# EAGLE library part K9F1G08U0D-SCB0 (library K9F1G08U0D-SCB0)
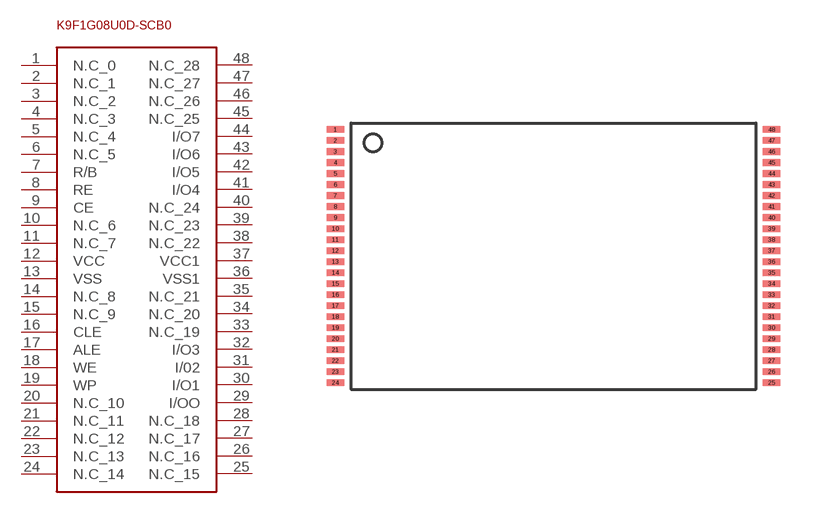
[diagram p0: symbol with the pads of K9F1G08U0D-SCB0; footprint K9F1G08U0D-SCB0]

Designator prefix -

## K9F1G08U0D-SCB0  [K9F1G08U0D-SCB0]
1  N.C_0
2  N.C_1
3  N.C_2
4  N.C_3
5  N.C_4
6  N.C_5
7  R/B
8  RE
9  CE
10  N.C_6
11  N.C_7
12  VCC
13  VSS
14  N.C_8
15  N.C_9
16  CLE
17  ALE
18  WE
19  WP
20  N.C_10
21  N.C_11
22  N.C_12
23  N.C_13
24  N.C_14
25  N.C_15
26  N.C_16
27  N.C_17
28  N.C_18
29  I/OO
30  I/O1
31  I/02
32  I/O3
33  N.C_19
34  N.C_20
35  N.C_21
36  VSS1
37  VCC1
38  N.C_22
39  N.C_23
40  N.C_24
41  I/O4
42  I/O5
43  I/O6
44  I/O7
45  N.C_25
46  N.C_26
47  N.C_27
48  N.C_28

## Footprint K9F1G08U0D-SCB0 (pad centres in mm)
smd 0.8 x 0.3: 1 0,0; 2 0,-0.5; 3 0,-1; 4 0,-1.5; 5 0,-2; 6 0,-2.5; 7 0,-3; 8 0,-3.5; 9 0,-4; 10 0,-4.5; 11 0,-5; 12 0,-5.5; 13 0,-6; 14 0,-6.5; 15 0,-7; 16 0,-7.5; 17 0,-8; 18 0,-8.5; 19 0,-9; 20 0,-9.5; 21 0,-10; 22 0,-10.5; 23 0,-11; 24 0,-11.5; 25 19.8,-11.5; 26 19.8,-11; 27 19.8,-10.5; 28 19.8,-10; 29 19.8,-9.5; 30 19.8,-9; 31 19.8,-8.5; 32 19.8,-8; 33 19.8,-7.5; 34 19.8,-7; 35 19.8,-6.5; 36 19.8,-6; 37 19.8,-5.5; 38 19.8,-5; 39 19.8,-4.5; 40 19.8,-4; 41 19.8,-3.5; 42 19.8,-3; 43 19.8,-2.5; 44 19.8,-2; 45 19.8,-1.5; 46 19.8,-1; 47 19.8,-0.5; 48 19.8,0